# Altium schematic symbol library CL03A225MO5C65C.SchLib: 1 symbol
Pins are listed as number, name and electrical type; pins without a type are passive.

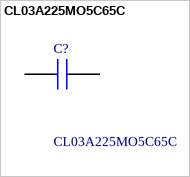
[diagram p0: symbol CL03A225MO5C65C]

## CL03A225MO5C65C
designator C?
Multilayer Ceramic Capacitors MLCC - SMD/SMT 2.2uF X5R 16V 0201; Manufacturer_Name: SAMSUNG; Geometry.Height: 0.35mm; Mouser Part Number: 187-CL03A225MO5C65C; Mouser Price/Stock: https://www.mouser.co.uk/ProductDetail/Samsung-Electro-Mechanics/CL03A225MO5C65C?qs=i8QVZAFTkqSietvJWGyvXw%3D%3D; Manufacturer_Part_Number: CL03A225MO5C65C; Datasheet Link: https://www.samsungsem.com/resources/file/global/support/product_catalog/MLCC.pdf
footprint CAPC0603X35N
pins: 1, 2